# Altium schematic symbol library M24C64-RMN6TP.Schlib: 1 symbol
Pins are listed as number, name and electrical type; pins without a type are passive.

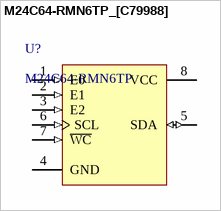
[diagram p0: symbol M24C64-RMN6TP_[C79988]]

## M24C64-RMN6TP_[C79988]
designator U?, comment M24C64-RMN6TP
EEPROM
footprint SOIC-8_150mil
pins: 1 E0 (in), 2 E1 (in), 3 E2 (in), 4 GND (power), 5 SDA (io), 6 SCL (in), 7 ~{WC} (in), 8 VCC (power)